# EAGLE library part INA321 (library newchips)
TI(BB) microPower, Single-Supply, CMOS Instrumentation Amplifier
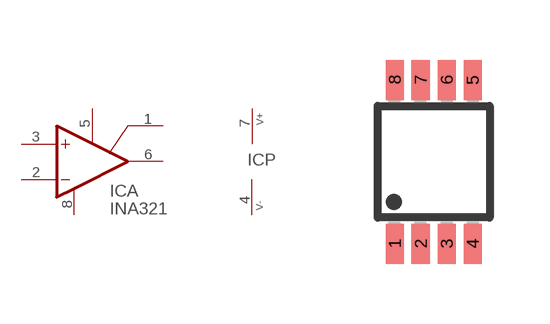
[diagram p23: symbol with the pads of MSOP8; footprint MSOP8]

Designator prefix IC; gates P=PWR_V+- A=INA321

## INA321  [MSOP8]
1  A:RG  pas
2  A:-IN  in
3  A:+IN  in
4  P:V-  pwr
5  A:REF  in
6  A:OUT  out
7  P:V+  pwr
8  A:SHDN  pas

## Footprint MSOP8 (pad centres in mm)
Micro Small Outline Package Grid .65mm
smd 0.45 x 1: 1 -0.975,-2.05; 2 -0.325,-2.05; 3 0.325,-2.05; 4 0.975,-2.05; 5 0.975,2.05; 6 0.325,2.05; 7 -0.325,2.05; 8 -0.975,2.05